# Altium schematic symbol library PolySomeCrypto01.SchLib: 13 symbols
Pins are listed as number, name and electrical type; pins without a type are passive.

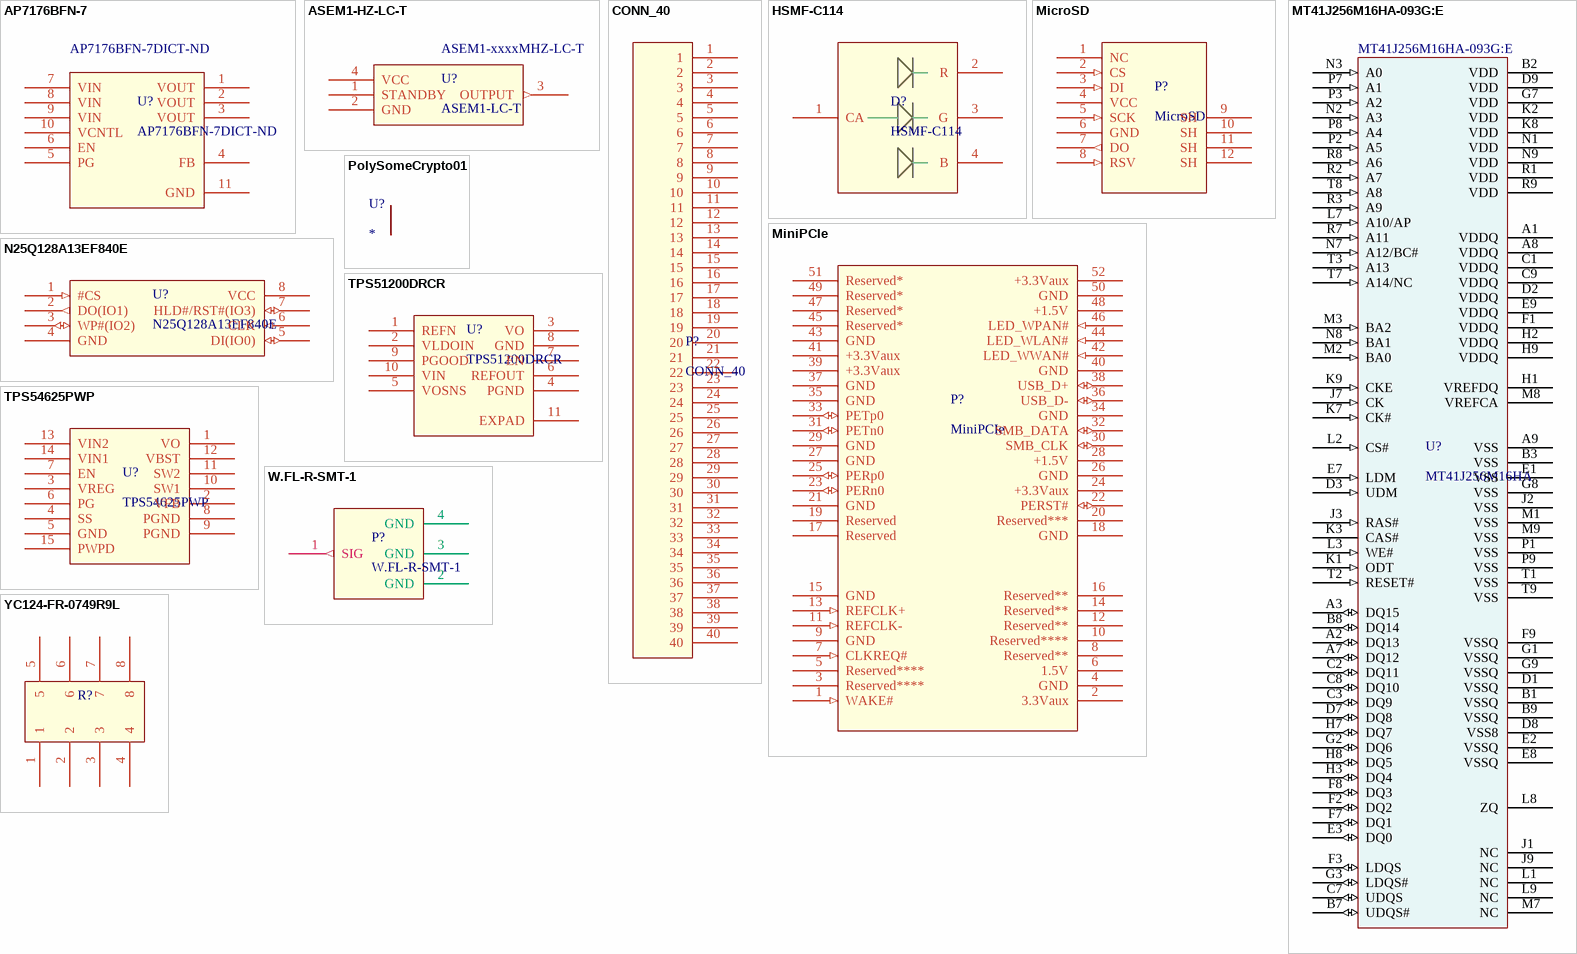
[diagram p0: symbols AP7176BFN-7 to YC124-FR-0749R9L]

## AP7176BFN-7
designator U?, comment AP7176BFN-7DICT-ND
IC REG LDO ADJ 3A 10-DFN; Manufacturer: Diodes Incorporated; Regulator Topology: Positive Adjustable; Voltage - Output: 0.8 V ~ 5.17 V; Voltage - Dropout (Typical): 0.33V @ 3A; Number of Regulators: 1; Voltage - Input: 1.2 V ~ 3.65 V; Current - Limit (Min): 4.5A; Supplier 1: Digi-Key; Manufacturer Part Number: AP7176BFN-7; RoHS: RoHS Compliant; Category: Integrated Circuits (ICs); Stock 1: 8535; Pricing 1: 1=0.99, 10=0.877, 25=0.792, 100=0.693, 250=0.60776, 500=0.539, 1000=0.42625 (USD); Packaging: Cut Tape (CT); Current - Output: 3A; Operating Temperature: -40°C ~ 85°C; Mounting Type: Surface Mount; Package / Case: 10-UFDFN Exposed Pad; Supplier Device Package: 10-UDFN (3x3); ComponentLink1URL: http://diodes.com/datasheets/AP7176B.pdf; ComponentLink1Description: http://diodes.com/datasheets/AP7176B.pdf; Supplier Part Number 1: AP7176BFN-7DICT-ND
footprint PSON50P300X100_HS-11N (PSON, 10-Leads, Body 3.00x3.00mm, Pitch 0.50mm, Thermal Pad 2.45x1.62mm, IPC Medium Density)
pins: 1 VOUT (power), 2 VOUT (power), 3 VOUT (power), 4 FB (power), 5 PG (oc), 6 EN (power), 7 VIN (power), 8 VIN (power), 9 VIN (power), 10 VCNTL (power), 11 GND (power)

## ASEM1-HZ-LC-T
designator U?, comment ASEM1-LC-T  Manufacturer Part Number: ASEM1-xxxxMHZ-LC-T
ABRACON - ASEM1-HZ-LC-T - MEMS OSC, 3.2 X 2.5MM, CMOS; Product Range: ABRACON - ASEM Series; Frequency Nom: 100; Frequency Stability + / -: 50; Supply Voltage Nom: 3.3; Oscillator Case: SMD, 3.2mm x 2.5; Supplier 1: Newark; Manufacturer: ABRACON; RoHS: YES; Stock 1: 67; Pricing 1: 1=1.63, 10=1.56, 50=1.53, 100=1.31, 500=1.27 (USD); Oscillator Output Compatibility: CMOS; ComponentLink1URL: http://www.abracon.com/Oscillators/ASEM.pdf; ComponentLink1Description: http://www.abracon.com/Oscillators/ASEM.pdf; Supplier Part Number 1: 14N7956
pins: 1 STANDBY (power), 2 GND (power), 3 OUTPUT (out), 4 VCC (power)

## CONN_40
designator P?
pins: 1, 2, 3, 4, 5, 6, 7, 8, 9, 10, 11, 12, 13, 14, 15, 16, 17, 18, 19, 20, 21, 22, 23, 24, 25, 26, 27, 28, 29, 30, 31, 32, 33, 34, 35, 36, 37, 38, 39, 40

## HSMF-C114
designator D?
LED CHIP RGB 1.6X1.5X0.35MM SMD; Manufacturer: Avago Technologies US Inc.; Color: Red, Green, Blue (RGB); Wavelength - Dominant: 626nm, 525nm, 470nm; Wavelength - Peak: 637nm, 523nm, 468nm; Millicandela Rating: 85mcd Red, 180mcd Green, 70mcd Blue; Voltage - Forward (Vf) (Typ): 1.9V Red, 3.4V Green, 3.4V Blue; Current - Test: 20mA; Viewing Angle: 140°, 145°, 145°; Lens Type: Diffused; Lens Style/Size: Rectangle with Flat Top, 1.5mm x 1.1mm; Supplier 1: Digi-Key; Manufacturer Part Number: HSMF-C114; RoHS: RoHS Compliant; Category: Optoelectronics; Stock 1: 23973; Pricing 1: 1=2.03, 10=1.62, 25=1.2376, 100=1.125, 250=0.99, 500=0.8325, 1000=0.72 (USD); Packaging: Cut Tape (CT); Package / Case: 0606 (1616 Metric); Size / Dimension: 1.60mm L x 1.50mm W; Height: 0.35mm; Mounting Type: Surface Mount; Luminous Flux @ Current - Test: -; ComponentLink1URL: http://www.avagotech.com/docs/AV02-2451EN; ComponentLink1Description: http://www.avagotech.com/docs/AV02-2451EN; Supplier Part Number 1: 516-1795-1-ND
pins: 1 CA, 2 R, 3 G, 4 B

## MicroSD
designator P?
pins: 1 NC (hiz), 2 CS (in), 3 DI (in), 4 VCC (power), 5 SCK (in), 6 GND (power), 7 DO (out), 8 RSV (in), 9 SH (power), 10 SH (power), 11 SH (power), 12 SH (power)

## MiniPCIe
designator P?
pins: 1 WAKE# (in), 2 3.3Vaux (power), 3 Reserved**** (hiz), 4 GND (power), 5 Reserved**** (hiz), 6 1.5V (power), 7 CLKREQ# (in), 8 Reserved** (hiz), 9 GND (power), 10 Reserved**** (hiz), 11 REFCLK- (in), 12 Reserved** (hiz), 13 REFCLK+ (in), 14 Reserved** (hiz), 15 GND (power), 16 Reserved** (hiz), 17 Reserved (hiz), 18 GND (power), 19 Reserved (hiz), 20 Reserved*** (hiz), 21 GND (power), 22 PERST# (io), 23 PERn0 (io), 24 +3.3Vaux (power), 25 PERp0 (io), 26 GND (power), 27 GND (power), 28 +1.5V (power), 29 GND (power), 30 SMB_CLK (io), 31 PETn0 (io), 32 SMB_DATA (io), 33 PETp0 (io), 34 GND (power), 35 GND (power), 36 USB_D- (io), 37 GND (power), 38 USB_D+ (io), 39 +3.3Vaux (power), 40 GND (power), 41 +3.3Vaux (power), 42 LED_WWAN# (in), 43 GND (power), 44 LED_WLAN# (in), 45 Reserved* (hiz), 46 LED_WPAN# (in), 47 Reserved* (hiz), 48 +1.5V (power), 49 Reserved* (hiz), 50 GND (power), 51 Reserved* (power), 52 +3.3Vaux (power)

## MT41J256M16HA-093G:E
designator U?, comment MT41J256M16HA  Manufacturer Part Number: MT41J256M16HA-093G:E
IC DDR3 SDRAM 4GBIT FBGA; Manufacturer: Micron Technology Inc; Format - Memory: RAM; Memory Size: 4G (256M x 16); Speed: 1066MHz; Interface: Parallel; Voltage - Supply: 1.425 V ~ 1.575 V; Supplier 1: Digi-Key; RoHS: RoHS Compliant; Category: Integrated Circuits (ICs); Stock 1: 0; Pricing 1: 1000=9.33075 (USD); Packaging: Tray; Memory Type: DDR3 SDRAM; Operating Temperature: 0°C ~ 95°C; Package / Case: 96-TFBGA; Supplier Device Package: 96-FBGA (9x14); ComponentLink1URL: http://www.micron.com/~/media/Documents/Products/Data%20Sheet/DRAM/DDR3/4Gb_DDR3_SDRAM.pdf; ComponentLink1Description: http://www.micron.com/~/media/Documents/Products/Data%20Sheet/DRAM/DDR3/4Gb_DDR3_SDRAM.pdf; Supplier Part Number 1: MT41J256M16HA-093G:E-ND
pins: A1 VDDQ (power), A2 DQ13 (io), A3 DQ15 (io), A7 DQ12 (io), A8 VDDQ (power), A9 VSS (power), B1 VSSQ (power), B2 VDD (power), B3 VSS (power), B7 UDQS# (io), B8 DQ14 (io), B9 VSSQ (power), C1 VDDQ (power), C2 DQ11 (io), C3 DQ9 (io), C7 UDQS (io), C8 DQ10 (io), C9 VDDQ (power), D1 VSSQ (power), D2 VDDQ (power), D3 UDM (in), D7 DQ8 (io), D8 VSS8 (power), D9 VDD (power), E1 VSS (power), E2 VSSQ (power), E3 DQ0 (io), E7 LDM (in), E8 VSSQ (power), E9 VDDQ (power), F1 VDDQ (power), F2 DQ2 (io), F3 LDQS (io), F7 DQ1 (io), F8 DQ3 (io), F9 VSSQ (power), G1 VSSQ (power), G2 DQ6 (io), G3 LDQS# (io), G7 VDD (power), G8 VSS (power), G9 VSSQ (power), H1 VREFDQ (power), H2 VDDQ (power), H3 DQ4 (io), H7 DQ7 (io), H8 DQ5 (io), H9 VDDQ (power), J1 NC (hiz), J2 VSS (power), J3 RAS# (in), J7 CK (in), J9 NC (hiz), K1 ODT (in), K2 VDD (power), K3 CAS#, K7 CK# (in), K8 VDD (power), K9 CKE (in), L1 NC (hiz), L2 CS# (in), L3 WE# (in), L7 A10/AP (in), L8 ZQ, L9 NC, M1 VSS (power), M2 BA0 (in), M3 BA2 (in), M7 NC (hiz), M8 VREFCA (power), M9 VSS (power), N1 VDD (power), N2 A3 (in), N3 A0 (in), N7 A12/BC# (in), N8 BA1 (in), N9 VDD (power), P1 VSS (power), P2 A5 (in), P3 A2 (in), P7 A1 (in), P8 A4 (in), P9 VSS (power), R1 VDD (power), R2 A7 (in), R3 A9 (in), R7 A11 (in), R8 A6 (in), R9 VDD (power), T1 VSS (power), T2 RESET# (in), T3 A13 (in), T7 A14/NC (in), T8 A8 (in), T9 VSS (power)

## N25Q128A13EF840E
designator U?
IC FLASH 128MBIT 108MHZ 8VDFN; Manufacturer: Micron Technology Inc; Memory Type: FLASH - NOR; Memory Size: 128M (32Mx4); Interface: SPI Serial; Voltage - Supply: 2.7 V ~ 3.6 V; Supplier 1: Digi-Key; Manufacturer Part Number: N25Q128A13EF840E; RoHS: RoHS Compliant; Category: Integrated Circuits (ICs); Stock 1: 2864; Pricing 1: 1=1.88, 10=1.713, 50=1.6588, 100=1.4828, 250=1.4784, 500=1.4564, 1000=1.39392, 2500=1.34288, 5000=1.298 (USD); Packaging: Tray; Format - Memory: FLASH; Speed: 108MHz; Operating Temperature: -40°C ~ 85°C; Package / Case: 8-VDFN Exposed Pad; Supplier Device Package: 8-VDFPN (MLP8) (8x6); ComponentLink1URL: http://www.micron.com/~/media/Documents/Products/Data%20Sheet/NOR%20Flash/Serial%20NOR/N25Q/n25q_128mb_3v_65nm.pdf; ComponentLink1Description: http://www.micron.com/~/media/Documents/Products/Data%20Sheet/NOR%20Flash/Serial%20NOR/N25Q/n25q_128mb_3v_65nm.pdf; Supplier Part Number 1: 557-1561-ND
pins: 1 #CS (in), 2 DO(IO1) (out), 3 WP#(IO2) (io), 4 GND (power), 5 DI(IO0) (io), 6 CLK (in), 7 HLD#/RST#(IO3) (io), 8 VCC (power)

## PolySomeCrypto01
designator U?

## TPS51200DRCR
designator U?
IC CONV DDR DDR2 DDR3 10SON; Manufacturer: Texas Instruments; Voltage - Input: 2.38 V ~ 3.5 V; Number of Outputs: 1; Supplier 1: Digi-Key; Manufacturer Part Number: TPS51200DRCR; RoHS: RoHS Compliant; Category: Integrated Circuits (ICs); Stock 1: 49935; Pricing 1: 1=2.15, 10=1.944, 25=1.7416, 100=1.566, 250=1.39052, 500=1.215, 750=1.10025, 1000=0.84375 (USD); Packaging: Cut Tape (CT); Applications: Converter, DDR; Voltage - Output: -; Operating Temperature: -40°C ~ 85°C; Mounting Type: Surface Mount; Package / Case: 10-VFDFN Exposed Pad; Supplier Device Package: 10-VSON (3x3); ComponentLink1URL: http://www.ti.com/lit/ds/symlink/tps51200.pdf; ComponentLink1Description: http://www.ti.com/lit/ds/symlink/tps51200.pdf; Supplier Part Number 1: 296-26978-1-ND
pins: 1 REFN (power), 2 VLDOIN (power), 3 VO (power), 4 PGND (power), 5 VOSNS (power), 6 REFOUT (power), 7 EN (power), 8 GND (power), 9 PGOOD (power), 10 VIN (power), 11 EXPAD (power)

## TPS54625PWP
designator U?
IC REG BUCK ADJ 6.5A 14HTSSOP; Manufacturer: Texas Instruments; Output Type: Adjustable; Number of Outputs: 1; Voltage - Output: 0.76 V ~ 5.5 V; Voltage - Input: 4.5 V ~ 18 V; Frequency - Switching: 650kHz; Synchronous Rectifier: Yes; Supplier 1: Digi-Key; Manufacturer Part Number: TPS54625PWP; RoHS: RoHS Compliant; Category: Integrated Circuits (ICs); Stock 1: 278; Pricing 1: 1=5.14, 10=4.59, 50=4.131, 100=3.7638, 250=3.3966, 500=3.04776, 750=2.754, 1000=2.295 (USD); Packaging: Tube; Type: Step-Down (Buck); Current - Output: 6.5A; Operating Temperature: -40°C ~ 85°C; Mounting Type: Surface Mount; Package / Case: 14-TSSOP (0.173", 4.40mm Width) Exposed Pad; Supplier Device Package: 14-HTSSOP; ComponentLink1URL: http://www.ti.com/lit/ds/symlink/tps54625.pdf; ComponentLink1Description: http://www.ti.com/lit/ds/symlink/tps54625.pdf; Supplier Part Number 1: 296-36897-5-ND
pins: 1 VO (power), 2 VFB (power), 3 VREG (power), 4 SS (power), 5 GND (power), 6 PG (power), 7 EN (power), 8 PGND (power), 9 PGND (power), 10 SW1 (power), 11 SW2 (power), 12 VBST (power), 13 VIN2 (power), 14 VIN1 (power), 15 PWPD (power)

## W.FL-R-SMT-1
designator P?
footprint W.FL-R-SMT-1
pins: 1 SIG (out), 2 GND, 3 GND, 4 GND

## YC124-FR-0749R9L
designator R?, comment RES_4_PACK  (value not drawn)
Resistor Networks & Arrays 49.9 Ohm 1% 1/16W 50 Volts; Manufacturer: Yageo; Manufacturer Part Number: YC124-FR-0749R9L; Temperature Coefficient: 200 PPM / C; Voltage Rating: 25 V; Number of Resistors: 4; Case Height: 0.45 mm; Case Length: 2 mm; Case Width: 1 mm; Power per Element: 0.063 W (1/16 W); Resistor Values: 49.9 Ohms; Product Status: New at Mouser; Supplier 1: Mouser; RoHS: RoHS Compliant By Exemption; Category: Resistor Networks & Arrays; Stock 1: 0; Pricing 1: 10000=0.053, 20000=0.051, 50000=0.049, 100000=0.047 (AUD); Operating Temperature Range: - 55 C to + 155 C; Packaging: Reel; Product: Array Chip Resistors; Series: YC/TC164; Termination Style: SMD/SMT; Tolerance: 1 %; Brand: Yageo; Number of Pins: 8; Product Category: Resistor Arrays; Product Type: Arrays; RoHS - Mouser: Y; Minimum Order Quantity: 10000; Reeling: True; ComponentLink1URL: http://www.mouser.com/ds/2/447/PYu-YC_TC124_51_RoHS_L_2-519518.pdf; ComponentLink1Description: http://www.mouser.com/ds/2/447/PYu-YC_TC124_51_RoHS_L_2-519518.pdf; Supplier Part Number 1: 603-YC124-FR-0749R9L
pins: 1, 2, 3, 4, 5, 6, 7, 8